# Altium footprint library WCAP-ATG8.PcbLib: 18 footprints (part 2 of 2)
Each footprint in its own frame and in the unit in brackets; x right, y up, seen from the top. Pads: shape width x height; smd on the part's side, far side on the other; paste and mask are expansions set on the pad; w line width, h text height; cw(c..) or ccw(c..) is an arc to the next point about the centre after c.
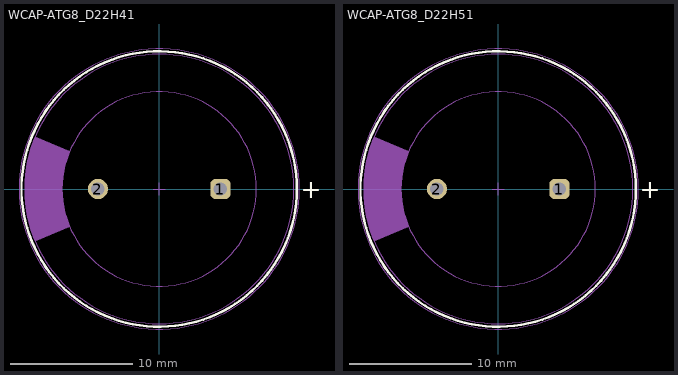
[diagram p1: the footprints below, top view; thin cyan lines are the x and y axes]

## WCAP-ATG8_D22H41 [mm] "Aluminum Electrolytic Capacitors, 22x41mm"
height 41
pads (2):
  rrect50% 1.65x1.65 hole 1.1: 1(5,0)
  round 1.65 hole 1.1: 2(-5,0)
Top Overlay:
  circle w0.2: c0,0 r11.25
  text "+" at 11.55,-0.75 h1.5
Top Designator:
  text ".Designator" at -7.498,-0.5 h1.5
Top Component Outline:
  circle w0.1: c0,0 r11
  circle w0.1: c0,0 r7.94
  region: -10.135,-4.275 -7.31,-3.099 -7.312,-3.094 -7.458,-2.725 -7.693,-1.966 -7.851,-1.187 -7.93,-0.397 -7.93,0.397 -7.851,1.187 -7.693,1.966 -7.458,2.725 -7.312,3.094 -7.31,3.099 -10.135,4.275 -10.277,3.938 -10.517,3.246 -10.709,2.54 -10.854,1.822 -10.951,1.097 -11,0.366 -11,-0.366 -10.951,-1.097 -10.854,-1.822 -10.709,-2.54 -10.517,-3.246 -10.277,-3.938
Top Courtyard:
  circle w0.05: c0,0 r11.45
Top Component Center:
  lines w0.05: -0.5,0 0.5,0 ; 0,-0.5 0,0.5
3D body "22x41x10x0.8.stp": height 41.31, standoff -19.91, extent -10.99,-11 11,10.996

## WCAP-ATG8_D22H51 [mm] "Aluminum Electrolytic Capacitors, 22x51mm"
height 51
pads (2):
  rrect50% 1.65x1.65 hole 1.1: 1(5,0)
  round 1.65 hole 1.1: 2(-5,0)
Top Overlay:
  circle w0.2: c0,0 r11.25
  text "+" at 11.55,-0.75 h1.5
Top Designator:
  text ".Designator" at -7.498,-0.5 h1.5
Top Component Outline:
  circle w0.1: c0,0 r7.94
  circle w0.1: c0,0 r11
  region: -10.135,-4.275 -7.31,-3.099 -7.312,-3.094 -7.458,-2.725 -7.693,-1.966 -7.851,-1.187 -7.93,-0.397 -7.93,0.397 -7.851,1.187 -7.693,1.966 -7.458,2.725 -7.312,3.094 -7.31,3.099 -10.135,4.275 -10.277,3.938 -10.517,3.246 -10.709,2.54 -10.854,1.822 -10.951,1.097 -11,0.366 -11,-0.366 -10.951,-1.097 -10.854,-1.822 -10.709,-2.54 -10.517,-3.246 -10.277,-3.938
Top Courtyard:
  circle w0.05: c0,0 r11.45
Top Component Center:
  lines w0.05: -0.5,0 0.5,0 ; 0,-0.5 0,0.5
3D body "22x51x10x0.8.stp": height 51.31, standoff -19.91, extent -10.99,-10.997 11,10.997